# Altium footprint library Maxim.PcbLib: 5 footprints
Each footprint in its own frame and in the unit in brackets; x right, y up, seen from the top. Pads: shape width x height; smd on the part's side, far side on the other; paste and mask are expansions set on the pad; w line width, h text height; cw(c..) or ccw(c..) is an arc to the next point about the centre after c.
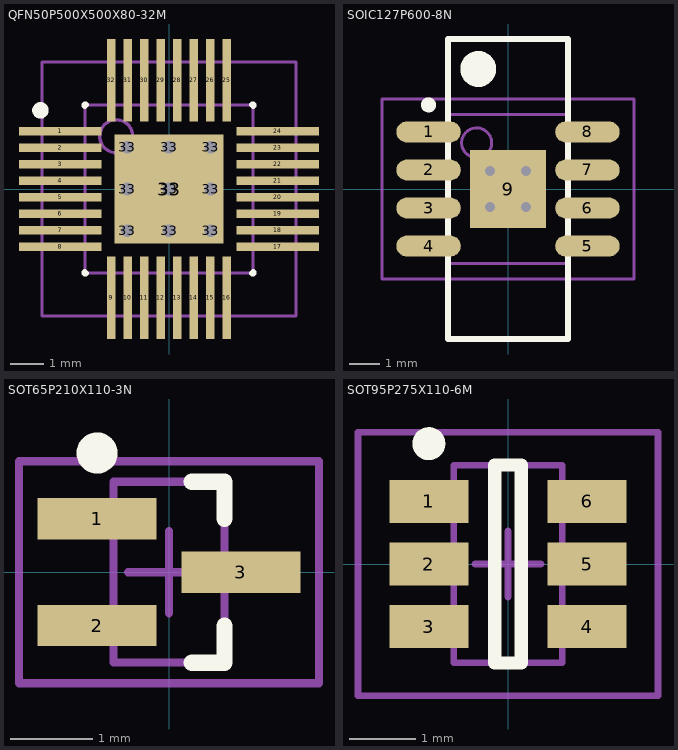
[diagram p0: the footprints below, top view; thin cyan lines are the x and y axes]

## 32QFN [mm]

## QFN50P500X500X80-32M [mm] "QFN, 32-Leads, Body 5.1x5.1mm (max), Pitch 0.50mm, IPC Low Density"
height 0.8
pads (42):
  rect 2.5x0.25 smd: 1(-3.3,1.75) 2(-3.3,1.25) 3(-3.3,0.75) 4(-3.3,0.25) 5(-3.3,-0.25) 6(-3.3,-0.75) 7(-3.3,-1.25) 8(-3.3,-1.75) 17(3.3,-1.75) 18(3.3,-1.25) 19(3.3,-0.75) 20(3.3,-0.25) 21(3.3,0.25) 22(3.3,0.75) 23(3.3,1.25) 24(3.3,1.75)
  rect 0.25x2.5 smd: 9(-1.75,-3.3) 10(-1.25,-3.3) 11(-0.75,-3.3) 12(-0.25,-3.3) 13(0.25,-3.3) 14(0.75,-3.3) 15(1.25,-3.3) 16(1.75,-3.3) 25(1.75,3.3) 26(1.25,3.3) 27(0.75,3.3) 28(0.25,3.3) 29(-0.25,3.3) 30(-0.75,3.3) 31(-1.25,3.3) 32(-1.75,3.3)
  round 0.635 hole 0.381: 33(-1.27,-1.27) 33(-1.27,0) 33(-1.27,1.27) 33(0,-1.27) 33(0,0) 33(0,1.27) 33(1.27,-1.27) 33(1.27,0) 33(1.27,1.27)
  rect 3.3x3.3 smd: 33(0,0)
Top Overlay:
  circle w0.25: c-3.9,2.385 r0.125
  lines w0.2: -2.55,-2.525 -2.55,-2.55 -2.525,-2.55 ; -2.55,2.525 -2.55,2.55 -2.525,2.55 ; 2.525,-2.55 2.55,-2.55 2.55,-2.525 ; 2.525,2.55 2.55,2.55 2.55,2.525
Mechanical 13:
  circle w0.1: c-1.6,1.6 r0.5
  lines w0.1: -2.55,-2.55 2.55,-2.55 2.55,2.55 -2.55,2.55 -2.55,-2.55
Mechanical 15:
  lines w0.1: -0.5,0 0.5,0 ; 0,-0.5 0,0.5 ; -3.85,-3.85 3.85,-3.85 3.85,3.85 -3.85,3.85 -3.85,-3.85

## SOIC127P600-8N [mm]
height 1.68
pads (9):
  oval 2.15x0.7 smd: 1(-2.65,1.905) 2(-2.65,0.635) 3(-2.65,-0.635) 4(-2.65,-1.905) 5(2.65,-1.905) 6(2.65,-0.635) 7(2.65,0.635) 8(2.65,1.905)
  rect 2.55x2.6 smd: 9(0,0)
via -0.6,0.6 diameter 0.66 hole 0.33
via 0.6,0.6 diameter 0.66 hole 0.33
via -0.6,-0.6 diameter 0.66 hole 0.33
via 0.6,-0.6 diameter 0.66 hole 0.33
Top Overlay:
  circle w0.25: c-2.65,2.805 r0.125
  circle w0.6: c-0.994,4.004 r0.3
  lines w0.2: -1.994,-5.004 -1.994,5.004 1.994,5.004 1.994,-5.004 -1.994,-5.004
Mechanical 13:
  circle w0.1: c-1.045,1.54 r0.5
  lines w0.1: -1.995,-2.49 -1.995,2.49 1.995,2.49 1.995,-2.49 -1.995,-2.49
Mechanical 15:
  lines w0.1: -0.5,0 0.5,0 ; 0,-0.5 0,0.5 ; -4.2,-3 -4.2,3 4.2,3 4.2,-3 -4.2,-3
3D body: height 1.68, standoff 0.1, extent -1.995,-2.49 1.995,2.49

## SOT65P210X110-3N [mm] "SOT23, 3-Leads, Body 2.2x2.4mm (max), Pitch 0.65mm, IPC Medium Density"
height 1.1
pads (3):
  rect 1.45x0.5 smd: 1(-0.875,0.65) 2(-0.875,-0.65) 3(0.875,0)
Top Overlay:
  circle w0.25: c-0.875,1.45 r0.125
  lines w0.2: 0.275,-1.1 0.675,-1.1 0.675,-0.65 ; 0.275,1.1 0.675,1.1 0.675,0.65
Mechanical 13:
  lines w0.1: -0.675,-1.1 0.675,-1.1 0.675,1.1 -0.675,1.1 -0.675,-1.1
Mechanical 15:
  lines w0.1: -0.5,0 0.5,0 ; 0,-0.5 0,0.5 ; -1.825,-1.35 1.825,-1.35 1.825,1.35 -1.825,1.35 -1.825,-1.35
3D body: height 1.1, standoff 0.1, extent -0.675,-1.1 0.675,1.1

## SOT95P275X110-6M [mm] "SOT23, 6-Leads, Body 3.0x2.8mm (max), Pitch 0.95mm, IPC Low Density"
height 1.1
pads (6):
  rect 1.2x0.65 smd: 1(-1.2,0.95) 2(-1.2,0) 3(-1.2,-0.95) 4(1.2,-0.95) 5(1.2,0) 6(1.2,0.95)
Top Overlay:
  circle w0.25: c-1.2,1.825 r0.125
  lines w0.2: -0.2,-1.5 -0.2,1.5 0.2,1.5 0.2,-1.5 -0.2,-1.5
Mechanical 13:
  lines w0.1: -0.825,-1.5 0.825,-1.5 0.825,1.5 -0.825,1.5 -0.825,-1.5
Mechanical 15:
  lines w0.1: -0.5,0 0.5,0 ; 0,-0.5 0,0.5 ; -2.275,-2 2.275,-2 2.275,2 -2.275,2 -2.275,-2
3D body: height 1.1, standoff 0.08, extent -0.825,-1.5 0.825,1.5